# Altium footprint library mw.PcbLib: 252 footprints (part 8 of 16)
Each footprint in its own frame and in the unit in brackets; x right, y up, seen from the top. Pads: shape width x height; smd on the part's side, far side on the other; paste and mask are expansions set on the pad; w line width, h text height; cw(c..) or ccw(c..) is an arc to the next point about the centre after c.
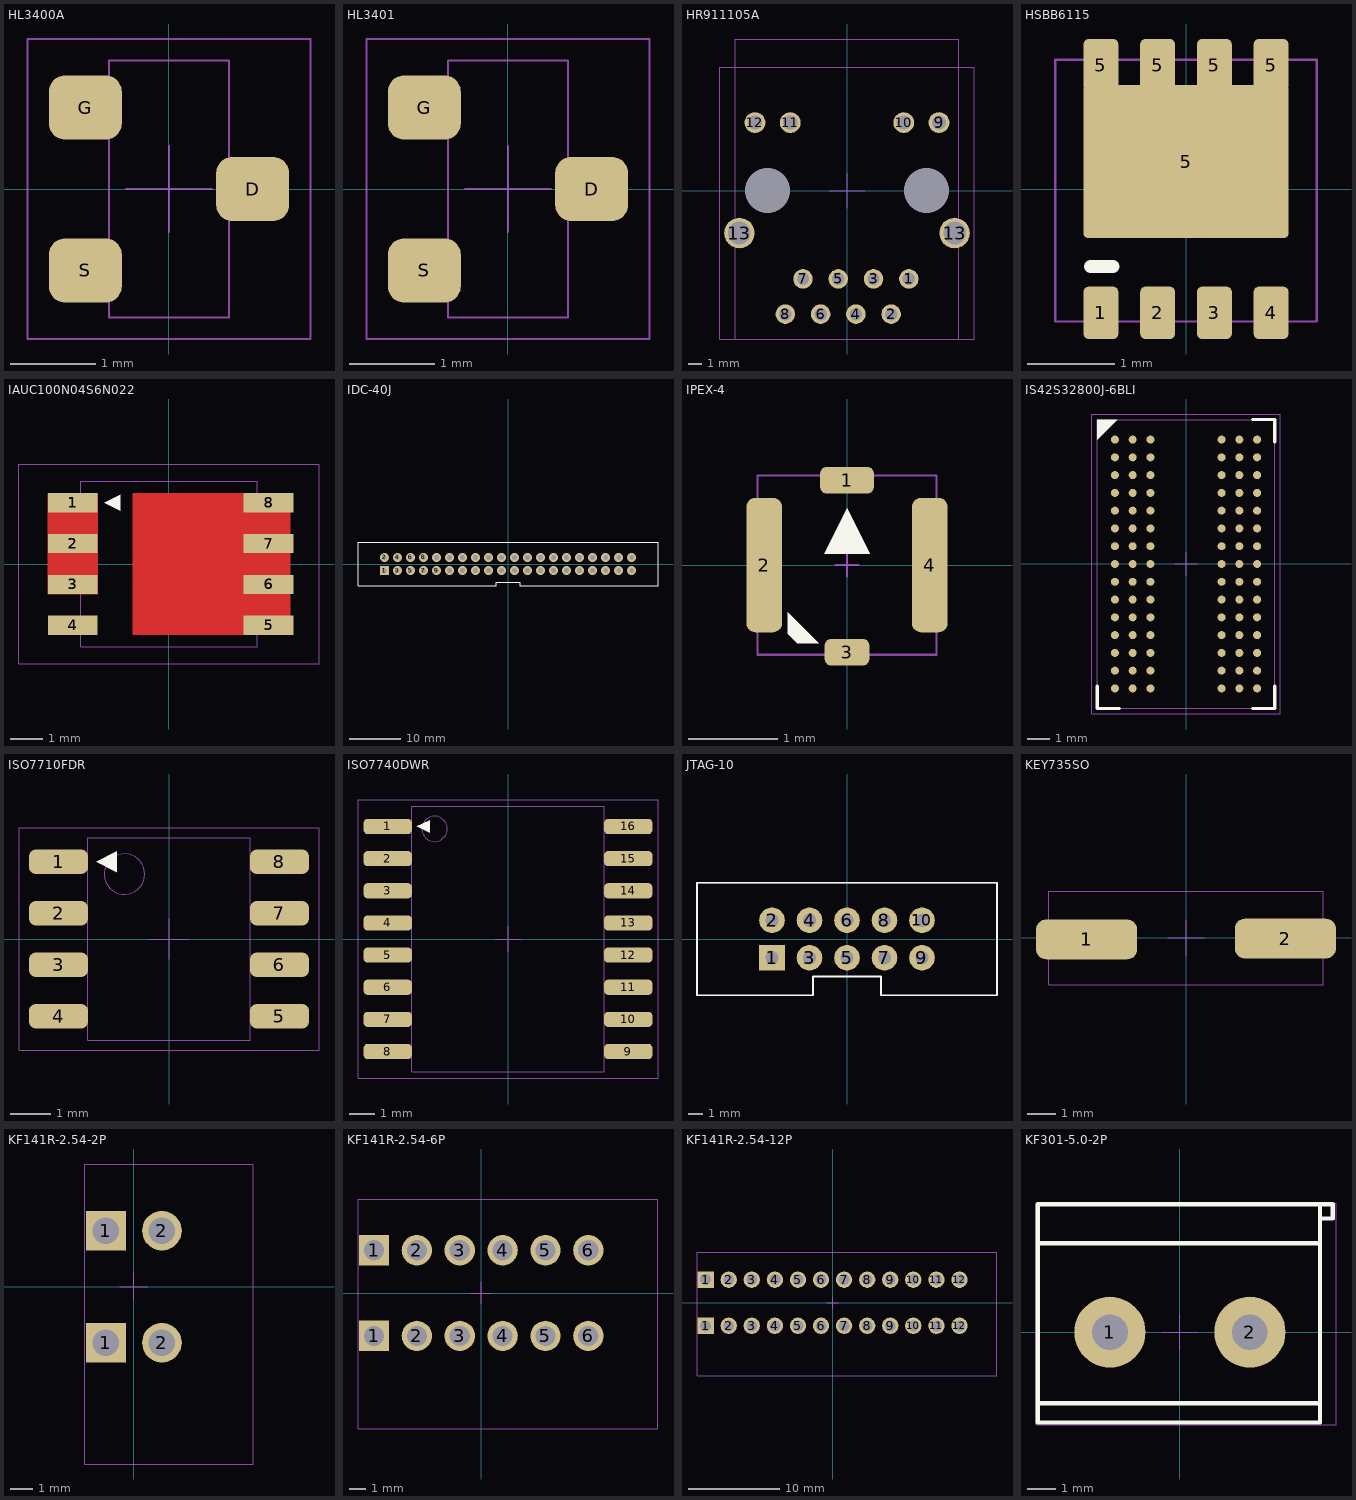
[diagram p7: the footprints below, top view; thin cyan lines are the x and y axes]

## HL3400A [mm] "SOT23, 3-Leads, Body 2.90x2.40mm, Pitch 0.95mm, IPC Medium Density"
height 1
pads (3):
  rrect50% 0.85x0.75 smd: D(0.975,0) G(-0.975,0.95) S(-0.975,-0.95)
Top 3D Body (Mech13):
  lines w0.025: -0.7,-1.5 -0.7,1.5 0.7,1.5 0.7,-1.5 -0.7,-1.5
Top Courtyard:
  lines w0.025: -0.5,0 0.5,0 ; 0,-0.5 0,0.5 ; -1.65,-1.75 1.65,-1.75 1.65,1.75 -1.65,1.75 -1.65,-1.75
3D body "HL3400A.step": height 1, standoff 0, extent -1.275,-1.5 1.275,1.5

## HL3401 [mm] "SOT23, 3-Leads, Body 2.90x2.40mm, Pitch 0.95mm, IPC Medium Density"
height 1
pads (3):
  rrect50% 0.85x0.75 smd: D(0.975,0) G(-0.975,0.95) S(-0.975,-0.95)
Top 3D Body (Mech13):
  lines w0.025: -0.7,-1.5 0.7,-1.5 0.7,1.5 -0.7,1.5 -0.7,-1.5
Top Courtyard:
  lines w0.025: -0.5,0 0.5,0 ; 0,-0.5 0,0.5 ; -1.65,-1.75 -1.65,1.75 1.65,1.75 1.65,-1.75 -1.65,-1.75
3D body "HL3401.step": height 1, standoff 0, extent -1.275,-1.5 1.275,1.5

## HR911105A [mm]
height 13.5
pads (16):
  round 1.4 hole 0.89: 1(4.45,-6.35) 2(3.18,-8.89) 3(1.91,-6.35) 4(0.64,-8.89) 5(-0.63,-6.35) 6(-1.9,-8.89) 7(-3.17,-6.35) 8(-4.44,-8.89)
  round 1.5 hole 1.02: 9(6.625,4.9) 10(4.085,4.9) 11(-4.085,4.9) 12(-6.625,4.9)
  round 2.2 hole 1.63: 13(-7.745,-3.05) 13(7.745,-3.05)
  round 0 hole 3.25 unplated: _(-5.715,0) _(5.715,0)
Top 3D Body (Mech13):
  lines w0.025: -8.05,-10.68 -8.05,10.92 8.05,10.92 8.05,-10.68 -8.05,-10.68
Top Courtyard:
  lines w0.025: -1.27,0 1.27,0 ; 0,-1.27 0,1.27 ; -9.144,-10.68 9.144,-10.68 9.144,8.89 -9.144,8.89 -9.144,-10.68
3D body "HR911105A.step": height 13.5, standoff -3.05, extent -8.02,-10.38 8.02,10.92

## HSBB6115 [mm]
pads (9):
  rrect30% 0.4x0.6 smd mask+0.051: 1(-0.975,-1.42) 2(-0.325,-1.419) 3(0.325,-1.419) 4(0.975,-1.419) 5(-0.975,1.42) 5(-0.325,1.42) 5(0.325,1.42) 5(0.975,1.42)
  rrect5% 2.35x1.75 smd paste-100 mask+0.051: 5(0,0.315)
Top Overlay:
  lines w0.15: -1.092,-0.889 -0.838,-0.889
Top Courtyard:
  lines w0.025: -1.5,-1.519 -1.5,1.481 1.5,1.481 1.5,-1.519 -1.5,-1.519

## IAUC100N04S6N022 [mm]
pads (24):
  rect 1.55x0.6 smd paste-1.55 mask+0: 1(-2.995,1.905) 1(-2.995,1.905) 1(-2.995,1.905) 2(-2.995,0.635) 2(-2.995,0.635) 2(-2.995,0.635) 3(-2.995,-0.635) 3(-2.995,-0.635) 3(-2.995,-0.635) 4(-2.995,-1.905) 4(-2.995,-1.905) 4(-2.995,-1.905)
  rect 1.55x0.6 smd paste-1.35 mask+0: 5(3.1,-1.905) 5(3.1,-1.905) 5(3.1,-1.905) 6(3.1,-0.635) 6(3.1,-0.635) 6(3.1,-0.635) 7(3.1,0.635) 7(3.1,0.635) 7(3.1,0.635) 8(3.1,1.905) 8(3.1,1.905) 8(3.1,1.905)
Top Layer:
  region: -2.22,2.205 -2.22,-0.935 -3.77,-0.935 -3.77,2.205 -2.995,2.205
  region: 3.775,2.205 3.775,-2.205 -1.125,-2.205 -1.125,2.205
Top Overlay:
  region: -1.512,1.651 -1.512,2.159 -2.02,1.905
Top Paste:
  region: 2.24,-1.6 0.74,-1.6 0.74,-0.1 2.24,-0.1
  region: -0.96,0.1 -0.96,1.6 0.54,1.6 0.54,0.1
  region: -0.96,-1.6 -0.96,-0.1 0.54,-0.1 0.54,-1.6
  region: 2.24,1.6 2.24,0.1 0.74,0.1 0.74,1.6
  region: 3.72,2.155 3.72,1.655 2.52,1.655 2.52,2.155
  region: 3.72,0.885 3.72,0.385 2.52,0.385 2.52,0.885
  region: 3.72,-0.385 3.72,-0.885 2.52,-0.885 2.52,-0.385
  region: 3.72,-1.655 3.72,-2.155 2.52,-2.155 2.52,-1.655
  region: -2.32,-0.037 -2.32,-0.887 -2.77,-0.887 -2.77,-0.037
  region: -2.32,1.059 -2.32,0.209 -2.77,0.209 -2.77,1.059
  region: -2.32,2.155 -2.32,1.305 -2.77,1.305 -2.77,2.155
  region: -2.52,-1.655 -2.52,-2.155 -3.72,-2.155 -3.72,-1.655
  region: -2.97,-0.385 -2.97,-0.885 -3.72,-0.885 -3.72,-0.385
  region: -2.97,0.885 -2.97,0.385 -3.72,0.385 -3.72,0.885
  region: -2.97,2.155 -2.97,1.655 -3.72,1.655 -3.72,2.155
Top Solder:
  region: -2.835,2.205 -2.22,2.205 -2.22,-0.935 -2.835,-0.935
  region: -1.125,2.205 2.425,2.205 2.425,-2.205 -1.125,-2.205
Top 3D Body (Mech13):
  lines w0.025: -2.74,-2.575 2.74,-2.575 2.74,2.575 -2.74,2.575 -2.74,-2.575
Top Courtyard:
  lines w0.025: -0.5,0 0.5,0 ; 0,-0.5 0,0.5 ; -4.67,-3.105 4.67,-3.105 4.67,3.105 -4.67,3.105 -4.67,-3.105
3D body "PG-TDSON-8-33_C66065-A6557-C027-01-0004.stp": height 1.01, standoff 0, extent -3.22,-2.705 3.22,2.705

## IDC-40J [mil] "IDC-40J"
pads (40):
  rect 68x68 hole 35: 1(-950,-50)
  round 68 hole 35: 2(-950,50) 3(-850,-50) 4(-850,50) 5(-750,-50) 6(-750,50) 7(-650,-50) 8(-650,50) 9(-550,-50) 10(-550,50) 11(-450,-50) 12(-450,50) 13(-350,-50) 14(-350,50) 15(-250,-50) 16(-250,50) 17(-150,-50) 18(-150,50) 19(-50,-50) 20(-50,50) 21(50,-50) 22(50,50) 23(150,-50) 24(150,50) 25(250,-50) 26(250,50) 27(350,-50) 28(350,50) 29(450,-50) 30(450,50) 31(550,-50) 32(550,50) 33(650,-50) 34(650,50) 35(750,-50) 36(750,50) 37(850,-50) 38(850,50) 39(950,-50) 40(950,50)
Top Overlay:
  lines w5: -1153.54,-166.54 -91.54,-166.54 -91,-140 90.02,-140 90.55,-166.54 1153.54,-166.54 1153.54,166.54 -1153.54,166.54 -1153.54,-166.54

## IPEX-4 [mm]
height 0.6
pads (4):
  rrect50% 0.6x0.3 smd: 1(0,0.947)
  rrect50% 0.4x1.5 smd: 2(-0.924,0) 4(0.924,0)
  rrect50% 0.5x0.3 smd: 3(0,-0.973)
Top Overlay:
  region: -0.318,-0.871 -0.556,-0.871 -0.662,-0.765 -0.662,-0.527
  region: -0.254,0.127 0.254,0.127 0,0.635
Top 3D Body (Mech13):
  lines w0.025: -1,-1 1,-1 1,1 -1,1 -1,-1
Top Courtyard:
  lines w0.025: -0.127,0 0.127,0 ; 0,-0.127 0,0.127 ; -1,-1 1,-1 1,1 -1,1 -1,-1
3D body "IPEX-4.step": height 0.61, standoff 0, extent -1,-1 1,1

## IS42S32800J-6BLI [mm] "BGA, 90-Leads, Body 8.00x13.00mmx1.20mm, Pitch 0.80mm"
height 1.2
pads (90):
  round 0.36 smd: A1(-3.2,5.6) A2(-2.4,5.6) A3(-1.6,5.6) A7(1.6,5.6) A8(2.4,5.6) A9(3.2,5.6) B1(-3.2,4.8) B2(-2.4,4.8) B3(-1.6,4.8) B7(1.6,4.8) B8(2.4,4.8) B9(3.2,4.8) C1(-3.2,4) C2(-2.4,4) C3(-1.6,4) C7(1.6,4) C8(2.4,4) C9(3.2,4) D1(-3.2,3.2) D2(-2.4,3.2) D3(-1.6,3.2) D7(1.6,3.2) D8(2.4,3.2) D9(3.2,3.2) E1(-3.2,2.4) E2(-2.4,2.4) E3(-1.6,2.4) E7(1.6,2.4) E8(2.4,2.4) E9(3.2,2.4) F1(-3.2,1.6) F2(-2.4,1.6) F3(-1.6,1.6) F7(1.6,1.6) F8(2.4,1.6) F9(3.2,1.6) G1(-3.2,0.8) G2(-2.4,0.8) G3(-1.6,0.8) G7(1.6,0.8) G8(2.4,0.8) G9(3.2,0.8) H1(-3.2,0) H2(-2.4,0) H3(-1.6,0) H7(1.6,0) H8(2.4,0) H9(3.2,0) J1(-3.2,-0.8) J2(-2.4,-0.8) J3(-1.6,-0.8) J7(1.6,-0.8) J8(2.4,-0.8) J9(3.2,-0.8) K1(-3.2,-1.6) K2(-2.4,-1.6) K3(-1.6,-1.6) K7(1.6,-1.6) K8(2.4,-1.6) K9(3.2,-1.6) L1(-3.2,-2.4) L2(-2.4,-2.4) L3(-1.6,-2.4) L7(1.6,-2.4) L8(2.4,-2.4) L9(3.2,-2.4) M1(-3.2,-3.2) M2(-2.4,-3.2) M3(-1.6,-3.2) M7(1.6,-3.2) M8(2.4,-3.2) M9(3.2,-3.2) N1(-3.2,-4) N2(-2.4,-4) N3(-1.6,-4) N7(1.6,-4) N8(2.4,-4) N9(3.2,-4) P1(-3.2,-4.8) P2(-2.4,-4.8) P3(-1.6,-4.8) P7(1.6,-4.8) P8(2.4,-4.8) P9(3.2,-4.8) R1(-3.2,-5.6) R2(-2.4,-5.6) R3(-1.6,-5.6) R7(1.6,-5.6) R8(2.4,-5.6) R9(3.2,-5.6)
Top Overlay:
  region: -3.085,6.5 -4,5.585 -4,6.5
  lines w0.15: -4,-5.5 -4,-6.5 -3,-6.5 ; 3,-6.5 4,-6.5 4,-5.5 ; 3,6.5 4,6.5 4,5.5
Top 3D Body (Mech13):
  lines w0.025: -4,-6.5 -4,6.5 4,6.5 4,-6.5 -4,-6.5
Top Courtyard:
  lines w0.025: -0.5,0 0.5,0 ; 0,-0.5 0,0.5 ; -4.25,-6.75 -4.25,6.75 4.25,6.75 4.25,-6.75 -4.25,-6.75
3D body "BGA90C80P9X15_800X1300X120.step": height 1.2, standoff 0, extent -4,-6.5 4,6.5

## ISO7710FDR [mm] "SOIC, 8-Leads, Body 4.91x3.90mm, Pitch 1.27mm, IPC Medium Density"
height 1.75
pads (8):
  rrect50% 1.45x0.6 smd: 1(-2.725,1.905) 2(-2.725,0.635) 3(-2.725,-0.635) 4(-2.725,-1.905) 5(2.725,-1.905) 6(2.725,-0.635) 7(2.725,0.635) 8(2.725,1.905)
Top Overlay:
  region: -1.292,1.651 -1.292,2.159 -1.8,1.905
Top 3D Body (Mech13):
  circle w0.025: c-1.1,1.6 r0.5
  lines w0.025: -2,-2.5 -2,2.5 2,2.5 2,-2.5 -2,-2.5
Top Courtyard:
  lines w0.025: -0.5,0 0.5,0 ; 0,-0.5 0,0.5 ; -3.7,-2.75 -3.7,2.75 3.7,2.75 3.7,-2.75 -3.7,-2.75
3D body "ISO7710FDR.step": height 1.75, standoff 0, extent -2.997,-2.5 2.997,2.5

## ISO7740DWR [mm] "SOIC, 16-Leads, Body 10.30x7.50mm, Pitch 1.27mm, IPC Medium Density"
height 2.65
pads (16):
  rrect50% 1.9x0.6 smd: 1(-4.75,4.445) 2(-4.75,3.175) 3(-4.75,1.905) 4(-4.75,0.635) 5(-4.75,-0.635) 6(-4.75,-1.905) 7(-4.75,-3.175) 8(-4.75,-4.445) 9(4.75,-4.445) 10(4.75,-3.175) 11(4.75,-1.905) 12(4.75,-0.635) 13(4.75,0.635) 14(4.75,1.905) 15(4.75,3.175) 16(4.75,4.445)
Top Overlay:
  region: -3.092,4.191 -3.092,4.699 -3.6,4.445
Top 3D Body (Mech13):
  circle w0.025: c-2.9,4.35 r0.5
  lines w0.025: -3.8,-5.25 3.8,-5.25 3.8,5.25 -3.8,5.25 -3.8,-5.25
Top Courtyard:
  lines w0.025: -0.5,0 0.5,0 ; 0,-0.5 0,0.5 ; -5.925,-5.5 5.925,-5.5 5.925,5.5 -5.925,5.5 -5.925,-5.5
3D body "ISO7740DWR.step": height 2.65, standoff 0, extent -5.15,-5.25 5.15,5.25

## JTAG-10 [mm] "JTAG-10"
pads (10):
  rect 1.73x1.73 hole 0.89: 1(-5.08,-1.27)
  round 1.73 hole 0.89: 2(-5.08,1.27) 3(-2.54,-1.27) 4(-2.54,1.27) 5(0,-1.27) 6(0,1.27) 7(2.54,-1.27) 8(2.54,1.27) 9(5.08,-1.27) 10(5.08,1.27)
Top Overlay:
  lines w0.13: -9.14,3.81 -10.16,3.81 ; -10.16,-3.81 -10.16,3.81 ; -10.16,-3.81 -2.29,-3.81 ; -10.16,-3.81 -10.16,3.81 ; -10.16,-3.81 -9.65,-3.81 -2.29,-3.81 ; -10.16,3.81 10.16,3.81 10.16,-3.81 9.4,-3.81 2.29,-3.81 2.29,-2.79 2.29,-2.54 -2.29,-2.54 -2.29,-3.81
Bottom Designator:
  lines w0.025: -10.16,-3.81 -10.16,3.81 10.16,3.81 10.16,-3.81
Top 3D Body (Mech13):
  lines w0.025: -10.16,-3.81 -10.16,3.81 10.16,3.81 10.16,-3.81

## KEY735SO [mil] "KEY735SO"
pads (2):
  rrect50% 140x55.12 smd: 1(-137.5,-1.9) 2(137.5,-0.9)
Top Courtyard:
  lines w1: -25,0 25,0 ; 0,-25 0,25 ; -190,-65 -190,65 190,65 190,-65 -190,-65
3D body "k2-1101st-a4sa-01.STEP": height 197, standoff -39.22, extent -189.97,-65 189.97,64.92

## KF141R-2.54-2P [mm] "Spring-loaded terminal block"
pads (4):
  rect 1.8x1.8 hole 1.2: 1(-1.27,-2.54) 1(-1.27,2.54)
  round 1.8 hole 1.2: 2(1.27,-2.54) 2(1.27,2.54)
Top 3D Body (Mech13):
  lines w0.025: -2.22,-8.04 -2.22,5.56 5.4,5.56 5.4,-8.04 -2.22,-8.04
Top Courtyard:
  lines w0.025: -0.635,0 0.635,0 ; 0,-0.635 0,0.635 ; -2.22,-8.04 -2.22,5.56 5.4,5.56 5.4,-8.04 -2.22,-8.04
3D body "kf141r-2.54-2p.step": height 12.46, standoff -3.5, extent -2.22,-8.04 5.4,5.76

## KF141R-2.54-6P [mm] "Spring-loaded terminal block"
pads (12):
  rect 1.8x1.8 hole 1.2: 1(-6.35,-2.54) 1(-6.35,2.54)
  round 1.8 hole 1.2: 2(-3.81,-2.54) 2(-3.81,2.54) 3(-1.27,-2.54) 3(-1.27,2.54) 4(1.27,-2.54) 4(1.27,2.54) 5(3.81,-2.54) 5(3.81,2.54) 6(6.35,-2.54) 6(6.35,2.54)
Top 3D Body (Mech13):
  lines w0.025: -7.3,-8.04 10.48,-8.04 10.48,5.56 -7.3,5.56 -7.3,-8.04
Top Courtyard:
  lines w0.025: -0.635,0 0.635,0 ; 0,-0.635 0,0.635 ; -7.3,-8.04 -7.3,5.56 10.48,5.56 10.48,-8.04 -7.3,-8.04
3D body "kf141r-2.54-6p.step": height 12.46, standoff -3.5, extent -7.3,-8.04 10.48,5.76

## KF141R-2.54-12P [mm] "Spring-loaded terminal block"
pads (24):
  rect 1.8x1.8 hole 1.2: 1(-13.97,-2.54) 1(-13.97,2.54)
  round 1.8 hole 1.2: 2(-11.43,-2.54) 2(-11.43,2.54) 3(-8.89,-2.54) 3(-8.89,2.54) 4(-6.35,-2.54) 4(-6.35,2.54) 5(-3.81,-2.54) 5(-3.81,2.54) 6(-1.27,-2.54) 6(-1.27,2.54) 7(1.27,-2.54) 7(1.27,2.54) 8(3.81,-2.54) 8(3.81,2.54) 9(6.35,-2.54) 9(6.35,2.54) 10(8.89,-2.54) 10(8.89,2.54) 11(11.43,-2.54) 11(11.43,2.54) 12(13.97,-2.54) 12(13.97,2.54)
Top 3D Body (Mech13):
  lines w0.025: -14.92,-8.04 18.1,-8.04 18.1,5.56 -14.92,5.56 -14.92,-8.04
Top Courtyard:
  lines w0.025: -0.635,0 0.635,0 ; 0,-0.635 0,0.635 ; -14.92,-8.04 18.1,-8.04 18.1,5.56 -14.92,5.56 -14.92,-8.04
3D body "kf141r-2.54-12p.step": height 12.46, standoff -3.5, extent -14.92,-8.04 18.1,5.76

## KF301-5.0-2P [mm] "5.0锟斤拷锟斤拷荻锟斤拷锟斤拷锟絴ITEMGUID="
pads (2):
  round 2.54 hole 1.27: 1(-2.5,0) 2(2.5,0)
Top Overlay:
  lines w0.152: -5.08,-2.54 5,-2.54 ; -5.08,3.175 4.953,3.175 ; 5,4.064 5.461,4.064 5.461,4.572 5,4.572 ; 5,4.572 -5.08,4.572 -5.08,-3.225 5,-3.225 5,4.572
Top Courtyard:
  lines w0.025: -0.635,0 0.635,0 ; 0,-0.635 0,0.635 ; -5.143,-3.315 -5.143,4.61 5.575,4.61 5.575,-3.315 -5.143,-3.315
3D body "KF301-5.0-2.STEP": height 10.16, standoff -1.84, extent -5.033,-3.186 5.467,4.514